# EAGLE library part 74*2G17? (library 74xx)
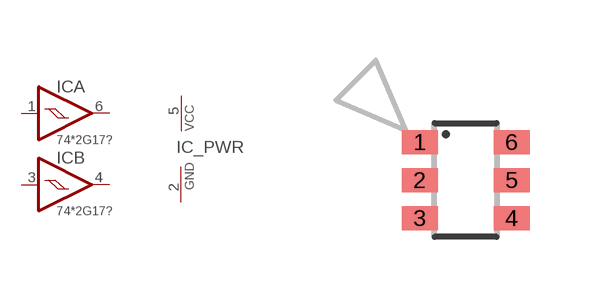
[diagram p3: symbol with the pads of SOT23-6; footprint SOT23-6]

Designator prefix IC; gates A=74X17 B=74X17 _PWR=PWRN

## 74LVC2G17DBV (MARK: C175,C17F,C17K,C17R; MF: Texas Instruments; MPN: SN74LVC2G17DBV)  [SOT23-6]
1  A:I  in
2  _PWR:GND  pwr
3  B:I  in
4  B:O  out
5  _PWR:VCC  pwr
6  A:O  out

## Footprint SOT23-6 (pad centres in mm)
Small Outline Transistor 6 lead
smd 0.9 x 0.6: 1 -1.15,0.95; 2 -1.15,0; 3 -1.15,-0.95; 4 1.15,-0.95; 5 1.15,0; 6 1.15,0.95